# Altium schematic symbol library 3.7 - ECM-XF.SchLib: 1 symbol
Pins are listed as number, name and electrical type; pins without a type are passive.

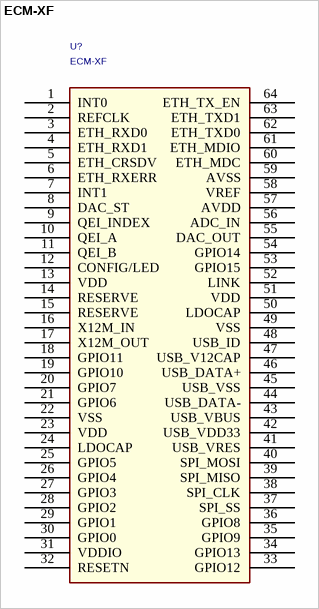
[diagram p0: symbol ECM-XF]

## ECM-XF
designator U?
footprint QFP64$2F$12$2F$0.5
pins: 1 INT0, 2 REFCLK, 3 ETH_RXD0, 4 ETH_RXD1, 5 ETH_CRSDV, 6 ETH_RXERR, 7 INT1, 8 DAC_ST, 9 QEI_INDEX, 10 QEI_A, 11 QEI_B, 12 CONFIG/LED, 13 VDD, 14 RESERVE, 15 RESERVE, 16 X12M_IN, 17 X12M_OUT, 18 GPIO11, 19 GPIO10, 20 GPIO7, 21 GPIO6, 22 VSS, 23 VDD, 24 LDOCAP, 25 GPIO5, 26 GPIO4, 27 GPIO3, 28 GPIO2, 29 GPIO1, 30 GPIO0, 31 VDDIO, 32 RESETN, 33 GPIO12, 34 GPIO13, 35 GPIO9, 36 GPIO8, 37 SPI_SS, 38 SPI_CLK, 39 SPI_MISO, 40 SPI_MOSI, 41 USB_VRES, 42 USB_VDD33, 43 USB_VBUS, 44 USB_DATA-, 45 USB_VSS, 46 USB_DATA+, 47 USB_V12CAP, 48 USB_ID, 49 VSS, 50 LDOCAP, 51 VDD, 52 LINK, 53 GPIO15, 54 GPIO14, 55 DAC_OUT, 56 ADC_IN, 57 AVDD, 58 VREF, 59 AVSS, 60 ETH_MDC, 61 ETH_MDIO, 62 ETH_TXD0, 63 ETH_TXD1, 64 ETH_TX_EN